# Altium schematic symbol library Schlib.SchLib: 25 symbols (part 1 of 2)
Pins are listed as number, name and electrical type; pins without a type are passive.

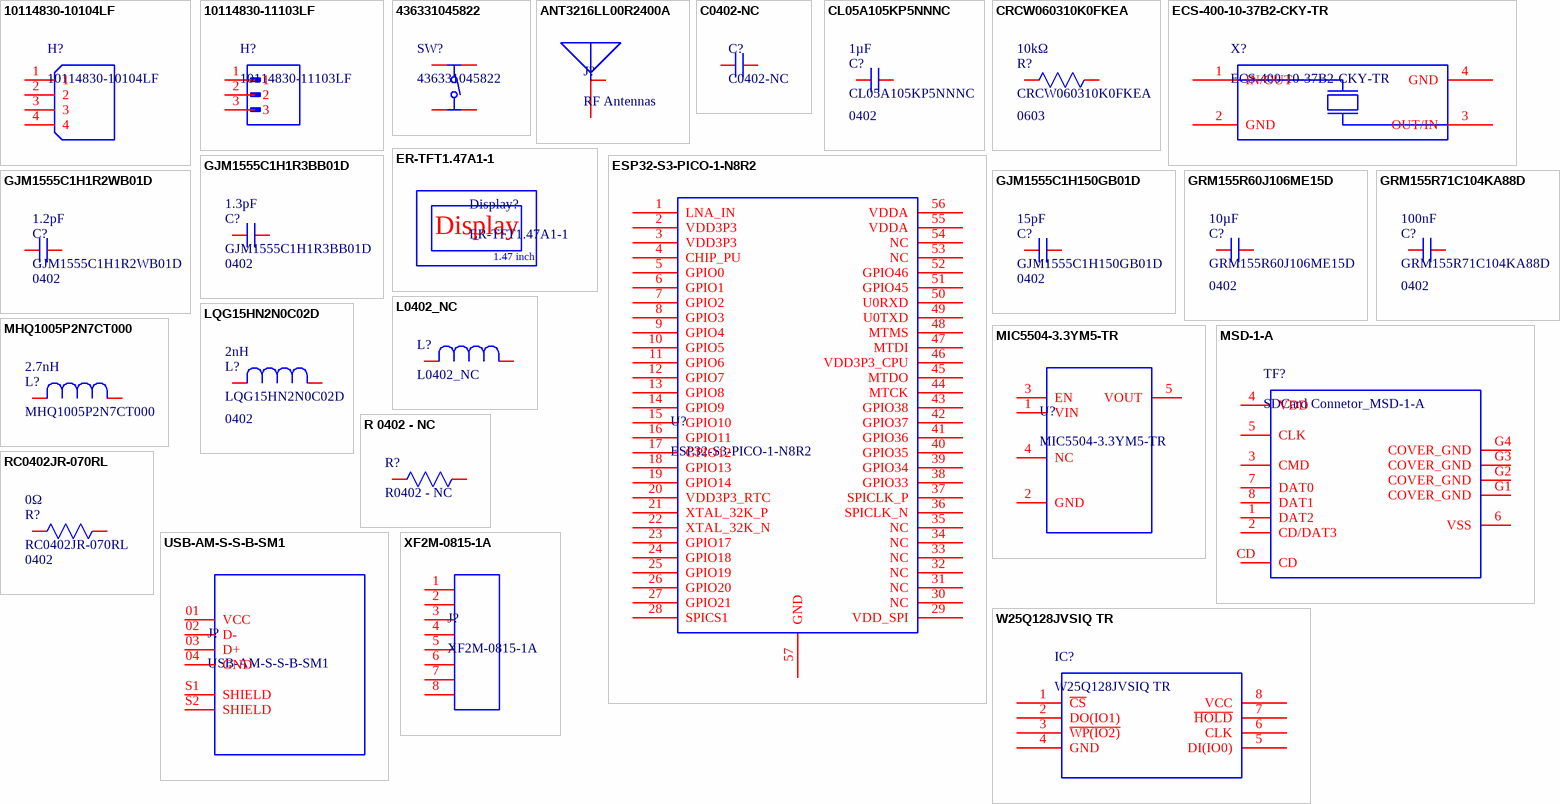
[diagram p0: symbols 10114830-10104LF to XF2M-0815-1A]

## 10114830-10104LF
designator H?
Board Connector, 4 Contact(S), 1 Row(S), Male, Right Angle, 0.049 Inch Pitch, Surface Mount; Manufacturer: Amphenol Communications Solutions; Connector Type: Male Pin; Contact Resistance: 20mΩ; Current Rating: 1A; Dielectric Material: Liquid Crystal Polymer; Insulation Resistance: 100MΩ; Max Voltage Rating (AC): 125V; Number of Contacts: 4; Operating Force: 29.42N; Pitch: 1.2446mm; Plating Thickness: 2.54µm; Supplier: DigiKey; Supplier Part Number: 609-6047-1-ND; Manufacturer Part Number: 10114830-10104LF; RoHS: Compliant; Category: Headers and Wire Housings; Stock: 13344; Pricing: 1=0,49, 10=0,42, 100=0,3569, 500=0,31854 (USD); China RoHS: Compliant; Color: Natural; Contact Gender: Male; Contact Material: Bronze; Contact Plating: Tin; Depth: 5.3mm; Export Control Classification Number (ECCN) Code: EAR99; Flammability Rating: UL94 V-0; Gender: Male; Housing Color: Natural; Housing Material: Thermoplastic; Harmonized Tariff Schedule (HTS) Code: 8536.69.40.40; Introduction Date: 2010-12-14; Length: 10.15mm; Lifecycle Status: Production; Max Current Rating: 1A; Max Operating Temperature: 105°C; Min Operating Temperature: -40°C; Mounting Technology: Surface Mount; Pins: 4; Number of Positions: 4; Number of Rows: 1; Orientation: Right Angle; REACH SVHC: Yes; Schedule B: 8536694040, 8536694040|8536694040, 8536694040|8536694040|8536694040, 8536694040|8536694040|8536694040|8536694040; Terminal Pitch: 1.25mm; Termination: Solder; Voltage Rating: 125V; ComponentLink1URL: https://datasheet.octopart.com:443/10114830-10104LF-Amphenol-Communications-Solutions-datasheet-181954850.pdf?src-supplier=IHS; ComponentLink1Description: https://datasheet.octopart.com:443/10114830-10104LF-Amphenol-Communications-Solutions-datasheet-181954850.pdf?src-supplier=IHS; ComponentLink2URL: https://datasheet.octopart.com:443/10114830-10104LF-Amphenol-Communications-Solutions-datasheet-154727257.pdf?src-supplier=Electro+Sonic; ComponentLink2Description: https://datasheet.octopart.com:443/10114830-10104LF-Amphenol-Communications-Solutions-datasheet-154727257.pdf?src-supplier=Electro+Sonic; ComponentLink3URL: https://datasheet.octopart.com:443/10114830-10104LF-FCI-datasheet-11519768.pdf?src-supplier=element14+APAC; ComponentLink3Description: https://datasheet.octopart.com:443/10114830-10104LF-FCI-datasheet-11519768.pdf?src-supplier=element14+APAC; ComponentLink4URL: https://datasheet.octopart.com:443/10114830-10104LF-FCI-datasheet-62311819.pdf?src-supplier=Farnell; ComponentLink4Description: https://datasheet.octopart.com:443/10114830-10104LF-FCI-datasheet-62311819.pdf?src-supplier=Farnell; LCSC Part: C5407185
footprint AMPHENOL_10114830-10104LF
pins: 1, 2, 3, 4

## 10114830-11103LF
designator H?
WTB 1.25 WAFER 90 SMT-10114830-11103LF | Amphenol FCI (Amphenol CS) 1011483011103LF; Manufacturer: Amphenol Communications Solutions; Connector Type: Male Pin; Contact Resistance: 20mΩ; Current Rating: 1A; Dielectric Material: Liquid Crystal Polymer; Gender: Male; Insulation Resistance: 100MΩ; Number of Positions: 3; Operating Force: 24.52N; Pitch: 1.2446mm; Supplier: DigiKey; Supplier Part Number: 609-10114830-11103LFDKR-ND; Manufacturer Part Number: 10114830-11103LF; RoHS: Compliant; Category: Card Edge Connectors; Stock: 6852; Pricing: 1=0,43, 10=0,365, 100=0,3097, 500=0,2764 (USD); China RoHS: Compliant; Color: Natural; Contact Plating: Gold; Lifecycle Status: Production; Max Operating Temperature: 105°C; Min Operating Temperature: -40°C; Mounting Technology: Surface Mount; Number of Rows: 1; Orientation: Right Angle; REACH SVHC: Yes; Terminal Pitch: 1.25mm; Termination: Solder; ComponentLink1URL: https://datasheet.octopart.com:443/10114830-11103LF-Amphenol-Communications-Solutions-datasheet-181954850.pdf?src-supplier=IHS; ComponentLink1Description: https://datasheet.octopart.com:443/10114830-11103LF-Amphenol-Communications-Solutions-datasheet-181954850.pdf?src-supplier=IHS; LCSC Part: C5407064
footprint AMPHENOL_10114830-11103LF
pins: 1, 2, 3

## 436331045822
designator SW?
Wurth Elektronik tactile switch, Solder terminal, size 4.5 x 4.7mm, surface, SPST; Manufacturer Lifecycle Status: ACTIVE; Contact Current Rating: 50mA; Contact Resistance: 100mΩ; Life (Cycles): 100kcycles; Voltage Rating: 12V; YEOL: 1 = Estimated lifetime > 10 years; Supplier: DigiKey; Supplier Part Number: 732-7059-2-ND; Manufacturer: Wurth Elektronik; Manufacturer Part Number: 436331045822; RoHS: Compliant; Category: Tactile Switches; Stock: 30789; Pricing: 3300=0,32965 (USD); Contact Plating: Silver; Current Rating: 50mA; Height: 1.65mm; Insulation Resistance: 100MΩ; Lifecycle Status: Production; Max Operating Temperature: 85°C; Min Operating Temperature: -40°C; Mounting Technology: Surface Mount; Packaging: Tape and Reel; Voltage Rating (DC): 12V; Width: 4.7mm; ComponentLink1URL: https://datasheet.octopart.com:443/436331045822-W%C3%BCrth-Elektronik-datasheet-154248855.pdf?src-supplier=Wurth+Elektronik; ComponentLink1Description: https://datasheet.octopart.com:443/436331045822-W%C3%BCrth-Elektronik-datasheet-154248855.pdf?src-supplier=Wurth+Elektronik; ComponentLink2URL: https://datasheet.octopart.com:443/436331045822-W%C3%BCrth-Elektronik-datasheet-141445726.pdf?src-supplier=HQonline; ComponentLink2Description: https://datasheet.octopart.com:443/436331045822-W%C3%BCrth-Elektronik-datasheet-141445726.pdf?src-supplier=HQonline; ComponentLink3URL: https://datasheet.octopart.com:443/436331045822-W%C3%BCrth-Elektronik-Midcom-datasheet-10030364.pdf?src-supplier=element14+APAC; ComponentLink3Description: https://datasheet.octopart.com:443/436331045822-W%C3%BCrth-Elektronik-Midcom-datasheet-10030364.pdf?src-supplier=element14+APAC; ComponentLink4URL: https://datasheet.octopart.com:443/436331045822-W%C3%BCrth-Elektronik-datasheet-41196550.pdf?src-supplier=element14+APAC; ComponentLink4Description: https://datasheet.octopart.com:443/436331045822-W%C3%BCrth-Elektronik-datasheet-41196550.pdf?src-supplier=element14+APAC; LCSC Part: C5143619
footprint 436331045822
pins: 1 3, 2 4, 3 1, 4 2

## ANT3216LL00R2400A
designator J?, comment RF Antennas
CERAMIC HELIX CHIP ANTENNA, 433MHZ, 1204; Available until stocks are exhausted; Manufacturer: Yageo Group; Manufacturer Part Number: ANT3216LL00R2400A; Impedance: 50Ω; Clock Frequency: 2.5GHz; Supplier: DigiKey; Supplier Part Number: 311-4590-6-ND; RoHS: Compliant; Category: RF Antennas; Stock: 12714; Pricing: 1=0,46, 10=0,32, 25=0,2852, 100=0,2473, 250=0,22916, 500=0,21822, 1000=0,20921 (USD); Body Material: Ceramic; Country of Origin: Mainland China, Taiwan; Introduction Date: 2013-03-27; Lifecycle Status: Production; Max Operating Temperature: 105°C; Min Operating Temperature: -40°C; Mounting Technology: Surface Mount; Number of Terminals: 2; REACH SVHC: Yes; ComponentLink1URL: https://datasheet.octopart.com:443/ANT3216LL00R2400A-Pulse-datasheet-159152929.pdf?src-supplier=Electro+Sonic; ComponentLink1Description: https://datasheet.octopart.com:443/ANT3216LL00R2400A-Pulse-datasheet-159152929.pdf?src-supplier=Electro+Sonic; ComponentLink2URL: https://datasheet.octopart.com:443/ANT3216LL00R2400A-Yageo-datasheet-181541429.pdf?src-supplier=IHS; ComponentLink2Description: https://datasheet.octopart.com:443/ANT3216LL00R2400A-Yageo-datasheet-181541429.pdf?src-supplier=IHS; ComponentLink3URL: http://sigma.octopart.com:80/conflict_mineral_statement/Yageo-company-3.pdf?src-supplier=Compliance+Statements; ComponentLink3Description: http://sigma.octopart.com:80/conflict_mineral_statement/Yageo-company-3.pdf?src-supplier=Compliance+Statements; ComponentLink4URL: http://sigma.octopart.com:80/rohs_statement/Yageo-company-2.pdf?src-supplier=Compliance+Statements; ComponentLink4Description: http://sigma.octopart.com:80/rohs_statement/Yageo-company-2.pdf?src-supplier=Compliance+Statements; LCSC Part: C22423581
footprint ANT3216LL00R2400A
pins: 1, 2

## C0402-NC
designator C?
footprint CAPC1005X55N - NC
pins: 1, 2

## CL05A105KP5NNNC
designator C?  value 1µF  Case/Package: 0402
10V 1uF X5R 卤10% 0402 Multilayer Ceramic Capacitors MLCC - SMD/SMT ROHS; Manufacturer: Samsung Electro-Mechanics; Tolerance: 10%; Supplier: DigiKey; Supplier Part Number: 1276-1076-2-ND; Manufacturer Part Number: CL05A105KP5NNNC; RoHS: Compliant; Category: Ceramic Capacitors; Stock: 6461612; Pricing: 10000=0,00534, 20000=0,00483, 30000=0,00457, 50000=0,00429, 70000=0,00413, 100000=0,00397 (USD); Case Code (Imperial): 0402; Case Code (Metric): 1005; China RoHS: Compliant; Contact Plating: Tin; Country of Origin: Mainland China, Philippines, South Korea; Depth: 500µm; Dielectric: X5R; Dielectric Material: Ceramic; Export Control Classification Number (ECCN) Code: EAR99; Height: 550µm; Harmonized Tariff Schedule (HTS) Code: 8532.24.00.20; Introduction Date: 2007-12-03; Length: 1mm; Lifecycle Status: Production; Material: Ceramic; Max Operating Temperature: 85°C; Min Operating Temperature: -55°C; Mounting Technology: Surface Mount; Number of Terminals: 2; Radiation Hardening: No; REACH SVHC: Yes; Schedule B: 8532240020, 8532240020|8532240020|8532240020|8532240020|8532240020, 8532240020|8532240020|8532240020|8532240020|8532240020|8532240020, 8532240020|8532240020|8532240020|8532240020|8532240020|8532240020|8532240020; Thickness: 558.8µm; Voltage Rating: 10V; Voltage Rating (DC): 10V; Width: 500µm; ComponentLink1URL: https://datasheet.octopart.com:443/CL05A105KP5NNNC-Samsung-Electro-Mechanics-datasheet-181960517.pdf?src-supplier=IHS; ComponentLink1Description: https://datasheet.octopart.com:443/CL05A105KP5NNNC-Samsung-Electro-Mechanics-datasheet-181960517.pdf?src-supplier=IHS; ComponentLink2URL: https://datasheet.octopart.com:443/CL05A105KP5NNNC-Samsung-Electro-Mechanics-datasheet-136031721.pdf?src-supplier=Future+Electronics; ComponentLink2Description: https://datasheet.octopart.com:443/CL05A105KP5NNNC-Samsung-Electro-Mechanics-datasheet-136031721.pdf?src-supplier=Future+Electronics; ComponentLink3URL: https://datasheet.octopart.com:443/CL05A105KP5NNNC-Samsung-Electro-Mechanics-datasheet-110226203.pdf?src-supplier=Future+Electronics; ComponentLink3Description: https://datasheet.octopart.com:443/CL05A105KP5NNNC-Samsung-Electro-Mechanics-datasheet-110226203.pdf?src-supplier=Future+Electronics; ComponentLink4URL: https://datasheet.octopart.com:443/CL05A105KP5NNNC-Samsung-Electro-Mechanics-datasheet-81461591.pdf?src-supplier=Future+Electronics; ComponentLink4Description: https://datasheet.octopart.com:443/CL05A105KP5NNNC-Samsung-Electro-Mechanics-datasheet-81461591.pdf?src-supplier=Future+Electronics; ComponentLink5URL: https://datasheet.octopart.com:443/CL05A105KP5NNNC-Samsung-datasheet-42280521.pdf?src-supplier=Future+Electronics; ComponentLink5Description: https://datasheet.octopart.com:443/CL05A105KP5NNNC-Samsung-datasheet-42280521.pdf?src-supplier=Future+Electronics; ComponentLink6URL: https://datasheet.octopart.com:443/CL05A105KP5NNNC-Samsung-datasheet-26589000.pdf?src-supplier=Future+Electronics; ComponentLink6Description: https://datasheet.octopart.com:443/CL05A105KP5NNNC-Samsung-datasheet-26589000.pdf?src-supplier=Future+Electronics; ComponentLink7URL: https://datasheet.octopart.com:443/CL05A105KP5NNNC-Samsung-datasheet-8326907.pdf?src-supplier=Future+Electronics; ComponentLink7Description: https://datasheet.octopart.com:443/CL05A105KP5NNNC-Samsung-datasheet-8326907.pdf?src-supplier=Future+Electronics; ComponentLink8URL: https://datasheet.octopart.com:443/CL05A105KP5NNNC-Samsung-Electro-Mechanics-datasheet-149136634.pdf?src-supplier=Future+Electronics; ComponentLink8Description: https://datasheet.octopart.com:443/CL05A105KP5NNNC-Samsung-Electro-Mechanics-datasheet-149136634.pdf?src-supplier=Future+Electronics; ComponentLink9URL: https://datasheet.octopart.com/CL05A105KP5NNNC-Samsung-Electro-Mechanics-datasheet-97040617.pdf; ComponentLink9Description: https://datasheet.octopart.com/CL05A105KP5NNNC-Samsung-Electro-Mechanics-datasheet-97040617.pdf; ComponentLink10URL: https://datasheet.octopart.com/CL05A105KP5NNNC-Samsung-Electro-Mechanics-datasheet-8324245.pdf; ComponentLink10Description: https://datasheet.octopart.com/CL05A105KP5NNNC-Samsung-Electro-Mechanics-datasheet-8324245.pdf; ComponentLink11URL: https://datasheet.octopart.com:443/CL05A105KP5NNNC-Samsung-Electro-Mechanics-datasheet-11789578.pdf?src-supplier=Arrow+Electronics; ComponentLink11Description: https://datasheet.octopart.com:443/CL05A105KP5NNNC-Samsung-Electro-Mechanics-datasheet-11789578.pdf?src-supplier=Arrow+Electronics; ComponentLink12URL: https://datasheet.octopart.com:443/CL05A105KP5NNNC-Samsung-datasheet-59220082.pdf?src-supplier=TME; ComponentLink12Description: https://datasheet.octopart.com:443/CL05A105KP5NNNC-Samsung-datasheet-59220082.pdf?src-supplier=TME; LCSC Part: C14445
footprint CAPC1005X55N
pins: 1, 2

## CRCW060310K0FKEA
designator R?  value 10kΩ  Case Code (Imperial): 0603
Fixed Resistor, Metal Glaze/Thick Film, 0.1W, 10000ohm, 75V, 1% +/-Tol, Surface Mount, 0603; Manufacturer: Vishay; Max Power Dissipation: 100mW; Temperature Coefficient: 100ppm/°C; Supplier: DigiKey; Supplier Part Number: 541-10.0KHCT-ND; Manufacturer Part Number: CRCW060310K0FKEA; RoHS: Compliant; Category: Chip SMD Resistors; Stock: 5381974; Pricing: 1=0,1, 10=0,032, 25=0,024, 50=0,0194, 100=0,0158, 250=0,0124, 500=0,01046, 1000=0,00893 (USD); Case/Package: 0603; China RoHS: Non-Compliant; Composition: Thick Film; Contact Plating: Lead, Tin; Country of Origin: Israel, Taiwan; Depth: 850µm; Export Control Classification Number (ECCN) Code: EAR99; Features: Automotive AEC-Q200; Height: 450µm; Harmonized Tariff Schedule (HTS) Code: 8533.21.00.30; Introduction Date: 2005-02-16; Lead Free: Lead Free; Length: 1.55mm; Lifecycle Status: Production; Max Operating Temperature: 155°C; Military Standard: Not; Min Operating Temperature: -55°C; Mounting Technology: Surface Mount; Pins: 2; Number of Terminals: 2; Number of Terminations: 2; Packaging: Tape and Reel; Power Rating: 100mW; Radiation Hardening: No; Ratings: AEC-Q200; REACH SVHC: Yes; Schedule B: 8533210045, 8533210045|8533210045|8533210045|8533210045|8533210045|8533210045|8533210045|8533210045|8533210045|8533210045|8533210045|8533210045|8533210045|8533210045|8533210045|8533210045|8533210045|8533210045|8533210045|8533210045|8533210045|8533210045|8533210045|85; Termination: SMD/SMT; Tolerance: 1%; Voltage Rating: 75V; Voltage Rating (DC): 75V; Weight: 2.012816mg; Width: 850µm; Working Voltage: 75V; ComponentLink1URL: https://datasheet.octopart.com:443/CRCW060310K0FKEA-Vishay-datasheet-175423584.pdf?src-supplier=IHS; ComponentLink1Description: https://datasheet.octopart.com:443/CRCW060310K0FKEA-Vishay-datasheet-175423584.pdf?src-supplier=IHS; ComponentLink2URL: https://datasheet.octopart.com:443/CRCW060310K0FKEA-Vishay-datasheet-5300368.pdf?src-supplier=Future+Electronics; ComponentLink2Description: https://datasheet.octopart.com:443/CRCW060310K0FKEA-Vishay-datasheet-5300368.pdf?src-supplier=Future+Electronics; ComponentLink3URL: https://datasheet.octopart.com:443/CRCW060310K0FKEA-Vishay-datasheet-62316122.pdf?src-supplier=Future+Electronics; ComponentLink3Description: https://datasheet.octopart.com:443/CRCW060310K0FKEA-Vishay-datasheet-62316122.pdf?src-supplier=Future+Electronics; ComponentLink4URL: https://datasheet.octopart.com:443/CRCW060310K0FKEA-Vishay-datasheet-141434677.pdf?src-supplier=Upverter; ComponentLink4Description: https://datasheet.octopart.com:443/CRCW060310K0FKEA-Vishay-datasheet-141434677.pdf?src-supplier=Upverter; ComponentLink5URL: https://datasheet.octopart.com:443/CRCW060310K0FKEA-Vishay-datasheet-83961561.pdf?src-supplier=Newark; ComponentLink5Description: https://datasheet.octopart.com:443/CRCW060310K0FKEA-Vishay-datasheet-83961561.pdf?src-supplier=Newark; ComponentLink6URL: https://datasheet.octopart.com:443/CRCW060310K0FKEA-Vishay-datasheet-14722531.pdf?src-supplier=Newark; ComponentLink6Description: https://datasheet.octopart.com:443/CRCW060310K0FKEA-Vishay-datasheet-14722531.pdf?src-supplier=Newark; ComponentLink7URL: https://datasheet.octopart.com:443/CRCW060310K0FKEA-Vishay-datasheet-11516975.pdf?src-supplier=Newark; ComponentLink7Description: https://datasheet.octopart.com:443/CRCW060310K0FKEA-Vishay-datasheet-11516975.pdf?src-supplier=Newark; ComponentLink8URL: https://datasheet.octopart.com:443/CRCW060310K0FKEA-Vishay-datasheet-41302739.pdf?src-supplier=Newark; ComponentLink8Description: https://datasheet.octopart.com:443/CRCW060310K0FKEA-Vishay-datasheet-41302739.pdf?src-supplier=Newark; ComponentLink9URL: https://datasheet.octopart.com:443/CRCW060310K0FKEA-Vishay-datasheet-33013972.pdf?src-supplier=Newark; ComponentLink9Description: https://datasheet.octopart.com:443/CRCW060310K0FKEA-Vishay-datasheet-33013972.pdf?src-supplier=Newark; ComponentLink10URL: https://datasheet.octopart.com:443/CRCW060310K0FKEA-Vishay-datasheet-21226360.pdf?src-supplier=Newark; ComponentLink10Description: https://datasheet.octopart.com:443/CRCW060310K0FKEA-Vishay-datasheet-21226360.pdf?src-supplier=Newark; ComponentLink11URL: https://datasheet.octopart.com:443/CRCW060310K0FKEA-Vishay-datasheet-62317933.pdf?src-supplier=element14+APAC; ComponentLink11Description: https://datasheet.octopart.com:443/CRCW060310K0FKEA-Vishay-datasheet-62317933.pdf?src-supplier=element14+APAC; ComponentLink12URL: https://datasheet.octopart.com:443/CRCW060310K0FKEA-Vishay-datasheet-16179825.pdf?src-supplier=element14+APAC; ComponentLink12Description: https://datasheet.octopart.com:443/CRCW060310K0FKEA-Vishay-datasheet-16179825.pdf?src-supplier=element14+APAC; ComponentLink13URL: https://datasheet.octopart.com:443/CRCW060310K0FKEA-Vishay-datasheet-66077789.pdf?src-supplier=element14+APAC; ComponentLink13Description: https://datasheet.octopart.com:443/CRCW060310K0FKEA-Vishay-datasheet-66077789.pdf?src-supplier=element14+APAC; ComponentLink14URL: https://datasheet.octopart.com:443/CRCW060310K0FKEA-Vishay-datasheet-5306405.pdf?src-supplier=RS+(Formerly+Allied+Electronics); ComponentLink14Description: https://datasheet.octopart.com:443/CRCW060310K0FKEA-Vishay-datasheet-5306405.pdf?src-supplier=RS+(Formerly+Allied+Electronics); ComponentLink15URL: https://datasheet.octopart.com:443/CRCW060310K0FKEA-Vishay-Dale-datasheet-47688880.pdf?src-supplier=RS+(Formerly+Allied+Electronics); ComponentLink15Description: https://datasheet.octopart.com:443/CRCW060310K0FKEA-Vishay-Dale-datasheet-47688880.pdf?src-supplier=RS+(Formerly+Allied+Electronics); ComponentLink16URL: https://datasheet.octopart.com:443/CRCW060310K0FKEA-Vishay-datasheet-12001583.pdf?src-supplier=RS+(Formerly+Allied+Electronics); ComponentLink16Description: https://datasheet.octopart.com:443/CRCW060310K0FKEA-Vishay-datasheet-12001583.pdf?src-supplier=RS+(Formerly+Allied+Electronics); ComponentLink17URL: https://datasheet.octopart.com:443/CRCW060310K0FKEA-Vishay-datasheet-17834126.pdf?src-supplier=TME; ComponentLink17Description: https://datasheet.octopart.com:443/CRCW060310K0FKEA-Vishay-datasheet-17834126.pdf?src-supplier=TME; ComponentLink18URL: https://datasheet.octopart.com/D-CRCW-e3-Standard-Thick-Film-Chip-Resistors-Vishay-datasheet-family-64.pdf; ComponentLink18Description: https://datasheet.octopart.com/D-CRCW-e3-Standard-Thick-Film-Chip-Resistors-Vishay-datasheet-family-64.pdf; ComponentLink19URL: https://datasheet.octopart.com:443/CRCW060310K0FKEA-Vishay-datasheet-13242068.pdf?src-supplier=Farnell; ComponentLink19Description: https://datasheet.octopart.com:443/CRCW060310K0FKEA-Vishay-datasheet-13242068.pdf?src-supplier=Farnell; ComponentLink20URL: https://datasheet.octopart.com:443/CRCW060310K0FKEA-Vishay-datasheet-13195083.pdf?src-supplier=Farnell; ComponentLink20Description: https://datasheet.octopart.com:443/CRCW060310K0FKEA-Vishay-datasheet-13195083.pdf?src-supplier=Farnell; ComponentLink21URL: https://datasheet.octopart.com:443/CRCW060310K0FKEA-Vishay-datasheet-13034211.pdf?src-supplier=Farnell; ComponentLink21Description: https://datasheet.octopart.com:443/CRCW060310K0FKEA-Vishay-datasheet-13034211.pdf?src-supplier=Farnell; ComponentLink22URL: https://datasheet.octopart.com:443/CRCW060310K0FKEA-Vishay-datasheet-12600034.pdf?src-supplier=Farnell; ComponentLink22Description: https://datasheet.octopart.com:443/CRCW060310K0FKEA-Vishay-datasheet-12600034.pdf?src-supplier=Farnell; ComponentLink23URL: https://datasheet.octopart.com:443/CRCW060310K0FKEA-Vishay-datasheet-12532161.pdf?src-supplier=Farnell; ComponentLink23Description: https://datasheet.octopart.com:443/CRCW060310K0FKEA-Vishay-datasheet-12532161.pdf?src-supplier=Farnell; ComponentLink24URL: https://datasheet.octopart.com:443/CRCW060310K0FKEA-Vishay-datasheet-12517896.pdf?src-supplier=Farnell; ComponentLink24Description: https://datasheet.octopart.com:443/CRCW060310K0FKEA-Vishay-datasheet-12517896.pdf?src-supplier=Farnell; ComponentLink25URL: https://datasheet.octopart.com:443/CRCW060310K0FKEA-Vishay-datasheet-12509762.pdf?src-supplier=Farnell; ComponentLink25Description: https://datasheet.octopart.com:443/CRCW060310K0FKEA-Vishay-datasheet-12509762.pdf?src-supplier=Farnell; ComponentLink26URL: https://datasheet.octopart.com:443/CRCW060310K0FKEA-Vishay-datasheet-10322335.pdf?src-supplier=Farnell; ComponentLink26Description: https://datasheet.octopart.com:443/CRCW060310K0FKEA-Vishay-datasheet-10322335.pdf?src-supplier=Farnell; ComponentLink27URL: https://datasheet.octopart.com:443/CRCW060310K0FKEA-Vishay-datasheet-8788789.pdf?src-supplier=Farnell; ComponentLink27Description: https://datasheet.octopart.com:443/CRCW060310K0FKEA-Vishay-datasheet-8788789.pdf?src-supplier=Farnell; ComponentLink28URL: https://datasheet.octopart.com:443/CRCW060310K0FKEA-Vishay-datasheet-8361388.pdf?src-supplier=Farnell; ComponentLink28Description: https://datasheet.octopart.com:443/CRCW060310K0FKEA-Vishay-datasheet-8361388.pdf?src-supplier=Farnell; ComponentLink29URL: https://datasheet.octopart.com:443/CRCW060310K0FKEA-Vishay-datasheet-546287.pdf?src-supplier=Farnell; ComponentLink29Description: https://datasheet.octopart.com:443/CRCW060310K0FKEA-Vishay-datasheet-546287.pdf?src-supplier=Farnell; ComponentLink30URL: https://datasheet.octopart.com:443/CRCW060310K0FKEA-Vishay-datasheet-8619608.pdf?src-supplier=element14; ComponentLink30Description: https://datasheet.octopart.com:443/CRCW060310K0FKEA-Vishay-datasheet-8619608.pdf?src-supplier=element14; ComponentLink31URL: https://datasheet.octopart.com:443/CRCW060310K0FKEA-Vishay-datasheet-5377433.pdf?src-supplier=Garrett; ComponentLink31Description: https://datasheet.octopart.com:443/CRCW060310K0FKEA-Vishay-datasheet-5377433.pdf?src-supplier=Garrett; ComponentLink32URL: https://datasheet.octopart.com:443/CRCW060310K0FKEA-Vishay-datasheet-148188.pdf?src-supplier=Garrett; ComponentLink32Description: https://datasheet.octopart.com:443/CRCW060310K0FKEA-Vishay-datasheet-148188.pdf?src-supplier=Garrett; ComponentLink33URL: https://datasheet.octopart.com:443/CRCW060310K0FKEA-Vishay-datasheet-30224.pdf?src-supplier=Garrett; ComponentLink33Description: https://datasheet.octopart.com:443/CRCW060310K0FKEA-Vishay-datasheet-30224.pdf?src-supplier=Garrett; ComponentLink34URL: https://datasheet.octopart.com:443/CRCW060310K0FKEA-Vishay-datasheet-11835177.pdf?src-supplier=Arrow+Electronics; ComponentLink34Description: https://datasheet.octopart.com:443/CRCW060310K0FKEA-Vishay-datasheet-11835177.pdf?src-supplier=Arrow+Electronics; ComponentLink35URL: http://sigma.octopart.com:80/rohs_certificate/D-CRCW-e3-Standard-Thick-Film-Chip-Resistors-Vishay-family-102.pdf?src-supplier=Compliance+Statements; ComponentLink35Description: http://sigma.octopart.com:80/rohs_certificate/D-CRCW-e3-Standard-Thick-Film-Chip-Resistors-Vishay-family-102.pdf?src-supplier=Compliance+Statements; LCSC Part: C844918
footprint RES_CRCW_0603
pins: 1, 2

## ECS-400-10-37B2-CKY-TR
designator X?
Crystal 40MHz ±10ppm (Tol) ±10ppm (Stability) 10pF FUND 40Ohm 4-Pin Mini-CSMD T/R; Manufacturer: ECS International; Frequency Tolerance: 0.001%; ESR: 40Ω; Supplier: DigiKey; Supplier Part Number: 50-ECS-400-10-37B2-CKY-TRDKR-ND; Manufacturer Part Number: ECS-400-10-37B2-CKY-TR; RoHS: Compliant; Category: Crystals; Stock: 15648; Pricing: 1=0,36, 10=0,312, 25=0,2952, 50=0,2832, 100=0,2714, 250=0,25668, 500=0,24608, 1000=0,23589 (USD); Export Control Classification Number (ECCN) Code: EAR99; Frequency: 40MHz; Frequency Stability: 10ppm; Harmonized Tariff Schedule (HTS) Code: 8541.60.00.60; Introduction Date: 2021-06-03; Lifecycle Status: Production; Load Capacitance: 10pF; Max Operating Temperature: 85°C; Min Operating Temperature: -30°C; Mounting Technology: Surface Mount; REACH SVHC: Yes; ComponentLink1URL: https://datasheet.octopart.com:443/ECS-400-10-37B2-CKY-TR-ECS-International-datasheet-163707945.pdf?src-supplier=Future+Electronics; ComponentLink1Description: https://datasheet.octopart.com:443/ECS-400-10-37B2-CKY-TR-ECS-International-datasheet-163707945.pdf?src-supplier=Future+Electronics; LCSC Part: C5357833
footprint ECX-1637B2_ECS
pins: 1 IN/OUT, 2 GND (power), 3 OUT/IN, 4 GND (power)

## ER-TFT1.47A1-1
designator Display?  (mechanical)
1.47 inch IPS TFT LCD Display 172x320 ST7789 Connector Type FPC; Interface: SPI; Resolution: 172x320 pixels; Brightness level: 600cd/m2; Driver: ST7789V; Link: https://www.buydisplay.com/ips-1-47-inch-tft-lcd-display-172x320-st7789?srsltid=AfmBOopYb5kgFHJx_JGE4rcxt3MZ71FTwb70rWIkjshiwtaaazWFqNax&__cf_chl_f_tk=GFdsK93oje94JbQyBuwHNKdbPmSxDleeO8fUUMCdhQ8-1783331335-1.0.1.1-IRihdDpgZmZPS66vjhg2DEm_jBuNsRbgkRriLDuPt_Q; Connctor type: FPC; Part number: ER-TFT1.47A1-1
text: Display; 1.47 inch

## ESP32-S3-PICO-1-N8R2
designator U?
ESP32-S3-PICO-1 Is A System-in-p; Manufacturer: Espressif Systems; Supplier: DigiKey; Supplier Part Number: 1965-ESP32-S3-PICO-1-N8R2DKR-ND; Manufacturer Part Number: ESP32-S3-PICO-1-N8R2; Category: RF Transceiver Modules and Modems; Stock: 1099; Pricing: 1=6,1, 10=5,281, 25=4,9968, 100=4,6063, 250=4,37224, 500=4,20692, 1000=4,05122 (USD); LCSC Part: *
footprint QFN56_7X7_EXP-L
pins: 1 LNA_IN, 2 VDD3P3 (power), 3 VDD3P3 (power), 4 CHIP_PU, 5 GPIO0, 6 GPIO1, 7 GPIO2, 8 GPIO3, 9 GPIO4, 10 GPIO5, 11 GPIO6, 12 GPIO7, 13 GPIO8, 14 GPIO9, 15 GPIO10, 16 GPIO11, 17 GPIO12, 18 GPIO13, 19 GPIO14, 20 VDD3P3_RTC (power), 21 XTAL_32K_P, 22 XTAL_32K_N, 23 GPIO17, 24 GPIO18, 25 GPIO19, 26 GPIO20, 27 GPIO21, 28 SPICS1, 29 VDD_SPI (power), 30 NC, 31 NC, 32 NC, 33 NC, 34 NC, 35 NC, 36 SPICLK_N, 37 SPICLK_P, 38 GPIO33, 39 GPIO34, 40 GPIO35, 41 GPIO36, 42 GPIO37, 43 GPIO38, 44 MTCK, 45 MTDO, 46 VDD3P3_CPU (power), 47 MTDI, 48 MTMS, 49 U0TXD, 50 U0RXD, 51 GPIO45, 52 GPIO46, 53 NC, 54 NC, 55 VDDA (power), 56 VDDA (power), 57 GND (power)

## GJM1555C1H1R2WB01D
designator C?  value 1.2pF  Case/Package: 0402
50V 1.2pF C0G 0402 Multilayer Ceramic Capacitors MLCC - SMD/SMT ROHS; Manufacturer: Murata; Manufacturer Lifecycle Status: IN PRODUCTION; Temperature Coefficient: 30ppm/°C; Supplier: DigiKey; Supplier Part Number: 490-11195-1-ND; Manufacturer Part Number: GJM1555C1H1R2WB01D; RoHS: Compliant; Category: Ceramic Capacitors; Stock: 139087; Pricing: 1=0,14, 10=0,076, 50=0,0532, 100=0,0462, 500=0,0344, 1000=0,03078, 2500=0,02696, 5000=0,02467 (USD); Case Code (Imperial): 0402; Case Code (Metric): 1005; Depth: 500µm; Dielectric: C0G; Dielectric Material: Ceramic; Export Control Classification Number (ECCN) Code: EAR99; Height: 500µm; Harmonized Tariff Schedule (HTS) Code: 8532.24.00.20; Introduction Date: 2008-02-22; Lead Free: Lead Free; Length: 1mm; Lifecycle Status: Production; Material: Ceramic; Max Operating Temperature: 125°C; Min Operating Temperature: -55°C; Mounting Technology: Surface Mount; Number of Terminals: 2; Radiation Hardening: No; REACH SVHC: Yes; Schedule B: 8532240020, 8532240020|8532240020|8532240020|8532240020|8532240020; Termination: SMD/SMT; Thickness: 500µm; Voltage: 50V; Voltage Rating: 50V; Voltage Rating (DC): 50V; Width: 500µm; ComponentLink1URL: https://datasheet.octopart.com:443/GJM1555C1H1R2WB01D-Murata-datasheet-96711496.pdf?src-supplier=element14+APAC; ComponentLink1Description: https://datasheet.octopart.com:443/GJM1555C1H1R2WB01D-Murata-datasheet-96711496.pdf?src-supplier=element14+APAC; ComponentLink2URL: https://datasheet.octopart.com:443/GJM1555C1H1R2WB01D-Murata-datasheet-165579666.pdf?src-supplier=TME; ComponentLink2Description: https://datasheet.octopart.com:443/GJM1555C1H1R2WB01D-Murata-datasheet-165579666.pdf?src-supplier=TME; ComponentLink3URL: https://datasheet.octopart.com:443/GJM1555C1H1R2WB01D-Murata-datasheet-141266224.pdf?src-supplier=Ciiva; ComponentLink3Description: https://datasheet.octopart.com:443/GJM1555C1H1R2WB01D-Murata-datasheet-141266224.pdf?src-supplier=Ciiva; ComponentLink4URL: https://datasheet.octopart.com:443/GJM1555C1H1R2WB01D-Murata-datasheet-140665300.pdf?src-supplier=Ciiva; ComponentLink4Description: https://datasheet.octopart.com:443/GJM1555C1H1R2WB01D-Murata-datasheet-140665300.pdf?src-supplier=Ciiva; ComponentLink5URL: https://datasheet.octopart.com:443/GJM1555C1H1R2WB01D-Murata-datasheet-138724563.pdf?src-supplier=Ciiva; ComponentLink5Description: https://datasheet.octopart.com:443/GJM1555C1H1R2WB01D-Murata-datasheet-138724563.pdf?src-supplier=Ciiva; ComponentLink6URL: https://datasheet.octopart.com:443/GJM1555C1H1R2WB01D-Murata-datasheet-22122223.pdf?src-supplier=Future+Electronics; ComponentLink6Description: https://datasheet.octopart.com:443/GJM1555C1H1R2WB01D-Murata-datasheet-22122223.pdf?src-supplier=Future+Electronics; ComponentLink7URL: https://datasheet.octopart.com:443/GJM1555C1H1R2WB01D-Murata-datasheet-12510170.pdf?src-supplier=Future+Electronics; ComponentLink7Description: https://datasheet.octopart.com:443/GJM1555C1H1R2WB01D-Murata-datasheet-12510170.pdf?src-supplier=Future+Electronics; ComponentLink8URL: https://datasheet.octopart.com:443/GJM1555C1H1R2WB01D-Murata-datasheet-12510323.pdf?src-supplier=Future+Electronics; ComponentLink8Description: https://datasheet.octopart.com:443/GJM1555C1H1R2WB01D-Murata-datasheet-12510323.pdf?src-supplier=Future+Electronics; ComponentLink9URL: https://datasheet.octopart.com:443/GJM1555C1H1R2WB01D-Murata-datasheet-8517407.pdf?src-supplier=Future+Electronics; ComponentLink9Description: https://datasheet.octopart.com:443/GJM1555C1H1R2WB01D-Murata-datasheet-8517407.pdf?src-supplier=Future+Electronics; ComponentLink10URL: https://datasheet.octopart.com:443/GJM1555C1H1R2WB01D-Murata-datasheet-8387045.pdf?src-supplier=Future+Electronics; ComponentLink10Description: https://datasheet.octopart.com:443/GJM1555C1H1R2WB01D-Murata-datasheet-8387045.pdf?src-supplier=Future+Electronics; ComponentLink11URL: https://datasheet.octopart.com:443/GJM1555C1H1R2WB01D-Murata-datasheet-8324201.pdf?src-supplier=Future+Electronics; ComponentLink11Description: https://datasheet.octopart.com:443/GJM1555C1H1R2WB01D-Murata-datasheet-8324201.pdf?src-supplier=Future+Electronics; ComponentLink12URL: https://datasheet.octopart.com:443/GJM1555C1H1R2WB01D-Murata-datasheet-7628724.pdf?src-supplier=Future+Electronics; ComponentLink12Description: https://datasheet.octopart.com:443/GJM1555C1H1R2WB01D-Murata-datasheet-7628724.pdf?src-supplier=Future+Electronics; ComponentLink13URL: https://datasheet.octopart.com:443/GJM1555C1H1R2WB01D-Murata-datasheet-552801.pdf?src-supplier=Future+Electronics; ComponentLink13Description: https://datasheet.octopart.com:443/GJM1555C1H1R2WB01D-Murata-datasheet-552801.pdf?src-supplier=Future+Electronics; ComponentLink14URL: https://datasheet.octopart.com:443/GJM1555C1H1R2WB01D-Murata-datasheet-44781244.pdf?src-supplier=Future+Electronics; ComponentLink14Description: https://datasheet.octopart.com:443/GJM1555C1H1R2WB01D-Murata-datasheet-44781244.pdf?src-supplier=Future+Electronics; ComponentLink15URL: https://datasheet.octopart.com/GJM1555C1H1R2WB01D-Murata-datasheet-12515295.pdf; ComponentLink15Description: https://datasheet.octopart.com/GJM1555C1H1R2WB01D-Murata-datasheet-12515295.pdf; ComponentLink16URL: https://datasheet.octopart.com/GJM1555C1H1R2WB01D-Murata-datasheet-12510076.pdf; ComponentLink16Description: https://datasheet.octopart.com/GJM1555C1H1R2WB01D-Murata-datasheet-12510076.pdf; ComponentLink17URL: https://datasheet.octopart.com/GJM1555C1H1R2WB01D-Murata-datasheet-11978611.pdf; ComponentLink17Description: https://datasheet.octopart.com/GJM1555C1H1R2WB01D-Murata-datasheet-11978611.pdf; ComponentLink18URL: https://datasheet.octopart.com/GJM1555C1H1R2WB01D-Murata-datasheet-10025737.pdf; ComponentLink18Description: https://datasheet.octopart.com/GJM1555C1H1R2WB01D-Murata-datasheet-10025737.pdf; ComponentLink19URL: https://datasheet.octopart.com/GJM1555C1H1R2WB01D-Murata-datasheet-8819587.pdf; ComponentLink19Description: https://datasheet.octopart.com/GJM1555C1H1R2WB01D-Murata-datasheet-8819587.pdf; ComponentLink20URL: https://datasheet.octopart.com/GJM1555C1H1R2WB01D-Murata-datasheet-14405976.pdf; ComponentLink20Description: https://datasheet.octopart.com/GJM1555C1H1R2WB01D-Murata-datasheet-14405976.pdf; ComponentLink21URL: http://sigma.octopart.com:80/reach_statement/Murata-company-16.pdf?src-supplier=Compliance+Statements; ComponentLink21Description: http://sigma.octopart.com:80/reach_statement/Murata-company-16.pdf?src-supplier=Compliance+Statements; LCSC Part: C76899
footprint CAPC1005X55N
pins: 1, 2

## GJM1555C1H1R3BB01D
designator C?  value 1.3pF  Case Code (Imperial): 0402
50V 1.3pF C0G 0402 Multilayer Ceramic Capacitors MLCC - SMD/SMT ROHS; Manufacturer: Murata; Manufacturer Lifecycle Status: IN PRODUCTION; Temperature Coefficient: 30ppm/°C; Supplier: DigiKey; Supplier Part Number: 490-8086-1-ND; Manufacturer Part Number: GJM1555C1H1R3BB01D; RoHS: Compliant; Category: Ceramic Capacitors; Stock: 147628; Pricing: 1=0,1, 10=0,051, 50=0,035, 100=0,0302, 500=0,02198, 1000=0,01946, 2500=0,01682, 5000=0,01524 (USD); Case/Package: 0402; Case Code (Metric): 1005; Depth: 500µm; Dielectric: C0G; Dielectric Material: Ceramic; Export Control Classification Number (ECCN) Code: EAR99; Height: 500µm; Harmonized Tariff Schedule (HTS) Code: 8532.24.00.20; Introduction Date: 2008-02-22; Lead Free: Lead Free; Lead Pitch: 300µm; Length: 1mm; Lifecycle Status: Production; Material: Ceramic; Max Operating Temperature: 125°C; Min Operating Temperature: -55°C; Mounting Technology: Surface Mount; Pins: 2; Number of Terminals: 2; Radiation Hardening: No; REACH SVHC: Yes; Schedule B: 8532240020, 8532240020|8532240020|8532240020|8532240020|8532240020; Termination: SMD/SMT; Thickness: 500µm; Voltage Rating: 50V; Voltage Rating (DC): 50V; Width: 500µm; ComponentLink1URL: https://datasheet.octopart.com:443/GJM1555C1H1R3BB01D-Murata-datasheet-12515636.pdf?src-supplier=_legacy+Avnet; ComponentLink1Description: https://datasheet.octopart.com:443/GJM1555C1H1R3BB01D-Murata-datasheet-12515636.pdf?src-supplier=_legacy+Avnet; ComponentLink2URL: https://datasheet.octopart.com:443/GJM1555C1H1R3BB01D-Murata-datasheet-165579666.pdf?src-supplier=TME; ComponentLink2Description: https://datasheet.octopart.com:443/GJM1555C1H1R3BB01D-Murata-datasheet-165579666.pdf?src-supplier=TME; ComponentLink3URL: https://datasheet.octopart.com:443/GJM1555C1H1R3BB01D-Murata-datasheet-12511495.pdf?src-supplier=TME; ComponentLink3Description: https://datasheet.octopart.com:443/GJM1555C1H1R3BB01D-Murata-datasheet-12511495.pdf?src-supplier=TME; ComponentLink4URL: https://datasheet.octopart.com:443/GJM1555C1H1R3BB01D-Murata-datasheet-141266224.pdf?src-supplier=Ciiva; ComponentLink4Description: https://datasheet.octopart.com:443/GJM1555C1H1R3BB01D-Murata-datasheet-141266224.pdf?src-supplier=Ciiva; ComponentLink5URL: https://datasheet.octopart.com:443/GJM1555C1H1R3BB01D-Murata-datasheet-140665301.pdf?src-supplier=Ciiva; ComponentLink5Description: https://datasheet.octopart.com:443/GJM1555C1H1R3BB01D-Murata-datasheet-140665301.pdf?src-supplier=Ciiva; ComponentLink6URL: https://datasheet.octopart.com:443/GJM1555C1H1R3BB01D-Murata-datasheet-138724564.pdf?src-supplier=Ciiva; ComponentLink6Description: https://datasheet.octopart.com:443/GJM1555C1H1R3BB01D-Murata-datasheet-138724564.pdf?src-supplier=Ciiva; ComponentLink7URL: https://datasheet.octopart.com:443/GJM1555C1H1R3BB01D-Murata-datasheet-22122223.pdf?src-supplier=Future+Electronics; ComponentLink7Description: https://datasheet.octopart.com:443/GJM1555C1H1R3BB01D-Murata-datasheet-22122223.pdf?src-supplier=Future+Electronics; ComponentLink8URL: https://datasheet.octopart.com:443/GJM1555C1H1R3BB01D-Murata-datasheet-12510170.pdf?src-supplier=Future+Electronics; ComponentLink8Description: https://datasheet.octopart.com:443/GJM1555C1H1R3BB01D-Murata-datasheet-12510170.pdf?src-supplier=Future+Electronics; ComponentLink9URL: https://datasheet.octopart.com:443/GJM1555C1H1R3BB01D-Murata-datasheet-8517407.pdf?src-supplier=Future+Electronics; ComponentLink9Description: https://datasheet.octopart.com:443/GJM1555C1H1R3BB01D-Murata-datasheet-8517407.pdf?src-supplier=Future+Electronics; ComponentLink10URL: https://datasheet.octopart.com:443/GJM1555C1H1R3BB01D-Murata-datasheet-8387045.pdf?src-supplier=Future+Electronics; ComponentLink10Description: https://datasheet.octopart.com:443/GJM1555C1H1R3BB01D-Murata-datasheet-8387045.pdf?src-supplier=Future+Electronics; ComponentLink11URL: https://datasheet.octopart.com:443/GJM1555C1H1R3BB01D-Murata-datasheet-8324201.pdf?src-supplier=Future+Electronics; ComponentLink11Description: https://datasheet.octopart.com:443/GJM1555C1H1R3BB01D-Murata-datasheet-8324201.pdf?src-supplier=Future+Electronics; ComponentLink12URL: https://datasheet.octopart.com:443/GJM1555C1H1R3BB01D-Murata-datasheet-7628724.pdf?src-supplier=Future+Electronics; ComponentLink12Description: https://datasheet.octopart.com:443/GJM1555C1H1R3BB01D-Murata-datasheet-7628724.pdf?src-supplier=Future+Electronics; ComponentLink13URL: https://datasheet.octopart.com:443/GJM1555C1H1R3BB01D-Murata-datasheet-552801.pdf?src-supplier=Future+Electronics; ComponentLink13Description: https://datasheet.octopart.com:443/GJM1555C1H1R3BB01D-Murata-datasheet-552801.pdf?src-supplier=Future+Electronics; ComponentLink14URL: https://datasheet.octopart.com:443/GJM1555C1H1R3BB01D-Murata-datasheet-44781245.pdf?src-supplier=Future+Electronics; ComponentLink14Description: https://datasheet.octopart.com:443/GJM1555C1H1R3BB01D-Murata-datasheet-44781245.pdf?src-supplier=Future+Electronics; ComponentLink15URL: https://datasheet.octopart.com/GJM1555C1H1R3BB01D-Murata-datasheet-12515295.pdf; ComponentLink15Description: https://datasheet.octopart.com/GJM1555C1H1R3BB01D-Murata-datasheet-12515295.pdf; ComponentLink16URL: https://datasheet.octopart.com/GJM1555C1H1R3BB01D-Murata-datasheet-12510076.pdf; ComponentLink16Description: https://datasheet.octopart.com/GJM1555C1H1R3BB01D-Murata-datasheet-12510076.pdf; ComponentLink17URL: https://datasheet.octopart.com/GJM1555C1H1R3BB01D-Murata-datasheet-11978611.pdf; ComponentLink17Description: https://datasheet.octopart.com/GJM1555C1H1R3BB01D-Murata-datasheet-11978611.pdf; ComponentLink18URL: https://datasheet.octopart.com/GJM1555C1H1R3BB01D-Murata-datasheet-10025737.pdf; ComponentLink18Description: https://datasheet.octopart.com/GJM1555C1H1R3BB01D-Murata-datasheet-10025737.pdf; ComponentLink19URL: https://datasheet.octopart.com/GJM1555C1H1R3BB01D-Murata-datasheet-8819587.pdf; ComponentLink19Description: https://datasheet.octopart.com/GJM1555C1H1R3BB01D-Murata-datasheet-8819587.pdf; ComponentLink20URL: https://datasheet.octopart.com/GJM1555C1H1R3BB01D-Murata-datasheet-14405988.pdf; ComponentLink20Description: https://datasheet.octopart.com/GJM1555C1H1R3BB01D-Murata-datasheet-14405988.pdf; ComponentLink21URL: https://datasheet.octopart.com:443/GJM1555C1H1R3BB01D-Murata-datasheet-10124241.pdf?src-supplier=Farnell; ComponentLink21Description: https://datasheet.octopart.com:443/GJM1555C1H1R3BB01D-Murata-datasheet-10124241.pdf?src-supplier=Farnell; ComponentLink22URL: http://sigma.octopart.com:80/reach_statement/Murata-company-16.pdf?src-supplier=Compliance+Statements; ComponentLink22Description: http://sigma.octopart.com:80/reach_statement/Murata-company-16.pdf?src-supplier=Compliance+Statements; LCSC Part: C161309
footprint CAPC1005X55N
pins: 1, 2

## GJM1555C1H150GB01D
designator C?  value 15pF  Case/Package: 0402
Multilayer Ceramic Capacitor, 15 pF, 50 V, ± 2%, C0G (NP0), 0402 [1005 Metric]; Manufacturer: Murata; Manufacturer Lifecycle Status: IN PRODUCTION; Temperature Coefficient: 30ppm/°C; Voltage Rating: 50V; Supplier: DigiKey; Supplier Part Number: 490-8080-6-ND; Manufacturer Part Number: GJM1555C1H150GB01D; RoHS: Compliant; Category: Ceramic Capacitors; Stock: 310689; Pricing: 1=0,12, 10=0,068, 50=0,0472, 100=0,0408, 500=0,03022, 1000=0,02696, 2500=0,02353, 5000=0,02147 (USD); Case Code (Imperial): 0402; Case Code (Metric): 1005; Depth: 500µm; Dielectric: C0G; Dielectric Material: Ceramic; Height: 500µm; Lead Free: Lead Free; Length: 1mm; Lifecycle Status: Production; Material: Ceramic; Max Operating Temperature: 125°C; Min Operating Temperature: -55°C; Mounting Technology: Surface Mount; Number of Terminals: 2; Radiation Hardening: No; REACH SVHC: Yes; Schedule B: 8532240020, 8532240020|8532240020, 8532240020|8532240020|8532240020, 8532240020|8532240020|8532240020|8532240020; Termination: SMD/SMT; Thickness: 500µm; Tolerance: 2%; Voltage Rating (DC): 50V; Width: 500µm; ComponentLink1URL: https://datasheet.octopart.com:443/GJM1555C1H150GB01D-Murata-datasheet-12519102.pdf?src-supplier=_legacy+Avnet; ComponentLink1Description: https://datasheet.octopart.com:443/GJM1555C1H150GB01D-Murata-datasheet-12519102.pdf?src-supplier=_legacy+Avnet; ComponentLink2URL: https://datasheet.octopart.com:443/GJM1555C1H150GB01D-Murata-datasheet-179072655.pdf?src-supplier=Arrow.cn; ComponentLink2Description: https://datasheet.octopart.com:443/GJM1555C1H150GB01D-Murata-datasheet-179072655.pdf?src-supplier=Arrow.cn; ComponentLink3URL: https://datasheet.octopart.com:443/GJM1555C1H150GB01D-Murata-datasheet-165579666.pdf?src-supplier=TME; ComponentLink3Description: https://datasheet.octopart.com:443/GJM1555C1H150GB01D-Murata-datasheet-165579666.pdf?src-supplier=TME; ComponentLink4URL: https://datasheet.octopart.com:443/GJM1555C1H150GB01D-Murata-datasheet-141266224.pdf?src-supplier=Ciiva; ComponentLink4Description: https://datasheet.octopart.com:443/GJM1555C1H150GB01D-Murata-datasheet-141266224.pdf?src-supplier=Ciiva; ComponentLink5URL: https://datasheet.octopart.com:443/GJM1555C1H150GB01D-Murata-datasheet-140665274.pdf?src-supplier=Ciiva; ComponentLink5Description: https://datasheet.octopart.com:443/GJM1555C1H150GB01D-Murata-datasheet-140665274.pdf?src-supplier=Ciiva; ComponentLink6URL: https://datasheet.octopart.com:443/GJM1555C1H150GB01D-Murata-datasheet-138724498.pdf?src-supplier=Ciiva; ComponentLink6Description: https://datasheet.octopart.com:443/GJM1555C1H150GB01D-Murata-datasheet-138724498.pdf?src-supplier=Ciiva; ComponentLink7URL: https://datasheet.octopart.com:443/GJM1555C1H150GB01D-Murata-datasheet-22122223.pdf?src-supplier=Future+Electronics; ComponentLink7Description: https://datasheet.octopart.com:443/GJM1555C1H150GB01D-Murata-datasheet-22122223.pdf?src-supplier=Future+Electronics; ComponentLink8URL: https://datasheet.octopart.com:443/GJM1555C1H150GB01D-Murata-datasheet-12510170.pdf?src-supplier=Future+Electronics; ComponentLink8Description: https://datasheet.octopart.com:443/GJM1555C1H150GB01D-Murata-datasheet-12510170.pdf?src-supplier=Future+Electronics; ComponentLink9URL: https://datasheet.octopart.com:443/GJM1555C1H150GB01D-Murata-datasheet-8517407.pdf?src-supplier=Future+Electronics; ComponentLink9Description: https://datasheet.octopart.com:443/GJM1555C1H150GB01D-Murata-datasheet-8517407.pdf?src-supplier=Future+Electronics; ComponentLink10URL: https://datasheet.octopart.com:443/GJM1555C1H150GB01D-Murata-datasheet-8387045.pdf?src-supplier=Future+Electronics; ComponentLink10Description: https://datasheet.octopart.com:443/GJM1555C1H150GB01D-Murata-datasheet-8387045.pdf?src-supplier=Future+Electronics; ComponentLink11URL: https://datasheet.octopart.com:443/GJM1555C1H150GB01D-Murata-datasheet-8324201.pdf?src-supplier=Future+Electronics; ComponentLink11Description: https://datasheet.octopart.com:443/GJM1555C1H150GB01D-Murata-datasheet-8324201.pdf?src-supplier=Future+Electronics; ComponentLink12URL: https://datasheet.octopart.com:443/GJM1555C1H150GB01D-Murata-datasheet-7628724.pdf?src-supplier=Future+Electronics; ComponentLink12Description: https://datasheet.octopart.com:443/GJM1555C1H150GB01D-Murata-datasheet-7628724.pdf?src-supplier=Future+Electronics; ComponentLink13URL: https://datasheet.octopart.com:443/GJM1555C1H150GB01D-Murata-datasheet-552801.pdf?src-supplier=Future+Electronics; ComponentLink13Description: https://datasheet.octopart.com:443/GJM1555C1H150GB01D-Murata-datasheet-552801.pdf?src-supplier=Future+Electronics; ComponentLink14URL: https://datasheet.octopart.com:443/GJM1555C1H150GB01D-Murata-datasheet-44781238.pdf?src-supplier=Future+Electronics; ComponentLink14Description: https://datasheet.octopart.com:443/GJM1555C1H150GB01D-Murata-datasheet-44781238.pdf?src-supplier=Future+Electronics; ComponentLink15URL: https://datasheet.octopart.com/GJM1555C1H150GB01D-Murata-datasheet-12515295.pdf; ComponentLink15Description: https://datasheet.octopart.com/GJM1555C1H150GB01D-Murata-datasheet-12515295.pdf; ComponentLink16URL: https://datasheet.octopart.com/GJM1555C1H150GB01D-Murata-datasheet-12510076.pdf; ComponentLink16Description: https://datasheet.octopart.com/GJM1555C1H150GB01D-Murata-datasheet-12510076.pdf; ComponentLink17URL: https://datasheet.octopart.com/GJM1555C1H150GB01D-Murata-datasheet-11978611.pdf; ComponentLink17Description: https://datasheet.octopart.com/GJM1555C1H150GB01D-Murata-datasheet-11978611.pdf; ComponentLink18URL: https://datasheet.octopart.com/GJM1555C1H150GB01D-Murata-datasheet-10025737.pdf; ComponentLink18Description: https://datasheet.octopart.com/GJM1555C1H150GB01D-Murata-datasheet-10025737.pdf; ComponentLink19URL: https://datasheet.octopart.com/GJM1555C1H150GB01D-Murata-datasheet-8819587.pdf; ComponentLink19Description: https://datasheet.octopart.com/GJM1555C1H150GB01D-Murata-datasheet-8819587.pdf; ComponentLink20URL: https://datasheet.octopart.com/GJM1555C1H150GB01D-Murata-datasheet-14405987.pdf; ComponentLink20Description: https://datasheet.octopart.com/GJM1555C1H150GB01D-Murata-datasheet-14405987.pdf; ComponentLink21URL: http://sigma.octopart.com:80/reach_statement/Murata-company-16.pdf?src-supplier=Compliance+Statements; ComponentLink21Description: http://sigma.octopart.com:80/reach_statement/Murata-company-16.pdf?src-supplier=Compliance+Statements; LCSC Part: C440152
footprint CAPC1005X55N
pins: 1, 2